# Altium footprint library 691 308 330 0xx.PcbLib: 9 footprints
Each footprint in its own frame and in the unit in brackets; x right, y up, seen from the top. Pads: shape width x height; smd on the part's side, far side on the other; paste and mask are expansions set on the pad; w line width, h text height; cw(c..) or ccw(c..) is an arc to the next point about the centre after c.
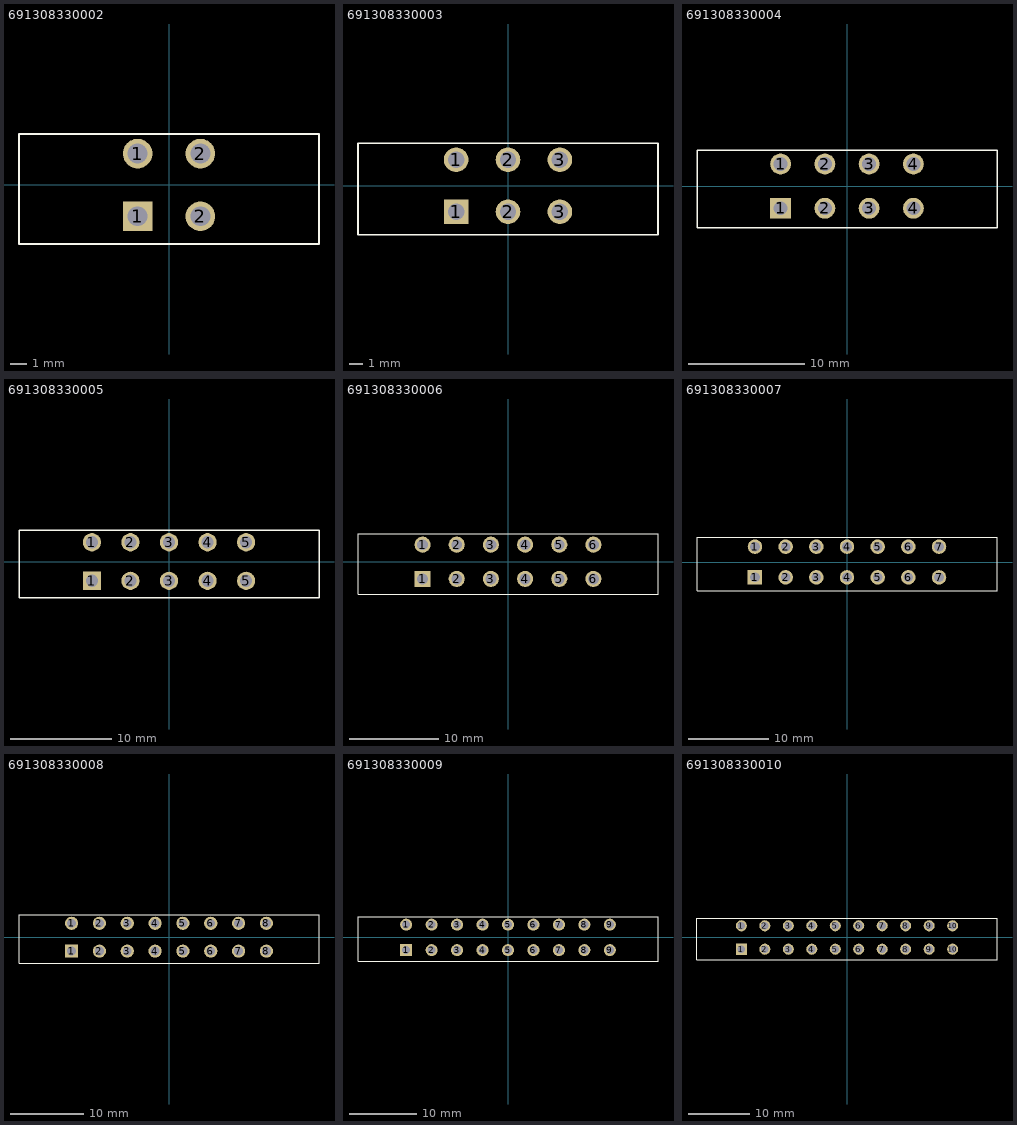
[diagram p0: the footprints below, top view; thin cyan lines are the x and y axes]

## 691308330002 [mm] "Serie 3083 - 3.81 mm _ 2 pins"
height 14.5
pads (4):
  rect 1.8x1.8 hole 1.2: 1(-1.905,-1.905)
  round 1.8 hole 1.2: 1(-1.905,1.905) 2(1.905,-1.905) 2(1.905,1.905)
Top Overlay:
  lines w0.127: -9.105,-3.595 9.105,-3.595 9.105,3.105 -9.105,3.105 -9.105,-3.595
3D body: height 14.6, standoff -3.3, extent -9.105,-3.65 9.105,3.15

## 691308330003 [mm] "Serie 3083 - 3.81 mm _ 3 pins"
height 14.5
pads (6):
  rect 1.8x1.8 hole 1.2: 1(-3.81,-1.905)
  round 1.8 hole 1.2: 1(-3.81,1.905) 2(0,-1.905) 2(0,1.905) 3(3.81,-1.905) 3(3.81,1.905)
Top Overlay:
  lines w0.127: -11.01,-3.595 -11.01,3.105 11.01,3.105 11.01,-3.595 -11.01,-3.595
3D body: height 14.6, standoff -3.3, extent -11.01,-3.65 11.01,3.15

## 691308330004 [mm] "Serie 3083 - 3.81 mm _ 4 pins"
height 14.5
pads (8):
  rect 1.8x1.8 hole 1.2: 1(-5.715,-1.905)
  round 1.8 hole 1.2: 1(-5.715,1.905) 2(-1.905,-1.905) 2(-1.905,1.905) 3(1.905,-1.905) 3(1.905,1.905) 4(5.715,-1.905) 4(5.715,1.905)
Top Overlay:
  lines w0.127: -12.915,-3.595 12.915,-3.595 12.915,3.105 -12.915,3.105 -12.915,-3.595
3D body: height 14.6, standoff -3.3, extent -12.95,-3.65 12.88,3.15

## 691308330005 [mm] "Serie 3083 - 3.81 mm _ 5 pins"
height 14.5
pads (10):
  rect 1.8x1.8 hole 1.2: 1(-7.62,-1.905)
  round 1.8 hole 1.2: 1(-7.62,1.905) 2(-3.81,-1.905) 2(-3.81,1.905) 3(0,-1.905) 3(0,1.905) 4(3.81,-1.905) 4(3.81,1.905) 5(7.62,-1.905) 5(7.62,1.905)
Top Overlay:
  lines w0.127: -14.82,-3.595 -14.82,3.105 14.82,3.105 14.82,-3.595 -14.82,-3.595
3D body: height 14.6, standoff -3.3, extent -14.85,-3.65 14.79,3.15

## 691308330006 [mm] "Serie 3083 - 3.81 mm _ 6 pins"
height 14.5
pads (12):
  rect 1.8x1.8 hole 1.2: 1(-9.525,-1.905)
  round 1.8 hole 1.2: 1(-9.525,1.905) 2(-5.715,-1.905) 2(-5.715,1.905) 3(-1.905,-1.905) 3(-1.905,1.905) 4(1.905,-1.905) 4(1.905,1.905) 5(5.715,-1.905) 5(5.715,1.905) 6(9.525,-1.905) 6(9.525,1.905)
Top Overlay:
  lines w0.127: -16.725,-3.595 -16.725,3.105 16.725,3.105 16.725,-3.595 -16.725,-3.595
3D body: height 14.6, standoff -3.3, extent -16.75,-3.65 16.7,3.15

## 691308330007 [mm] "Serie 3083 - 3.81 mm _ 7 pins"
height 14.5
pads (14):
  rect 1.8x1.8 hole 1.2: 1(-11.43,-1.905)
  round 1.8 hole 1.2: 1(-11.43,1.905) 2(-7.62,-1.905) 2(-7.62,1.905) 3(-3.81,-1.905) 3(-3.81,1.905) 4(0,-1.905) 4(0,1.905) 5(3.81,-1.905) 5(3.81,1.905) 6(7.62,-1.905) 6(7.62,1.905) 7(11.43,-1.905) 7(11.43,1.905)
Top Overlay:
  lines w0.127: -18.63,-3.595 18.63,-3.595 18.63,3.105 -18.63,3.105 -18.63,-3.595
3D body: height 14.6, standoff -3.3, extent -18.6,-3.65 18.66,3.15

## 691308330008 [mm] "Serie 3083 - 3.81 mm _ 8 pins"
height 14.5
pads (16):
  rect 1.8x1.8 hole 1.2: 1(-13.335,-1.905)
  round 1.8 hole 1.2: 1(-13.335,1.905) 2(-9.525,-1.905) 2(-9.525,1.905) 3(-5.715,-1.905) 3(-5.715,1.905) 4(-1.905,-1.905) 4(-1.905,1.905) 5(1.905,-1.905) 5(1.905,1.905) 6(5.715,-1.905) 6(5.715,1.905) 7(9.525,-1.905) 7(9.525,1.905) 8(13.335,-1.905) 8(13.335,1.905)
Top Overlay:
  lines w0.127: -20.535,-3.595 20.535,-3.595 20.535,3.105 -20.535,3.105 -20.535,-3.595
3D body: height 14.6, standoff -3.3, extent -20.52,-3.65 20.55,3.15

## 691308330009 [mm] "Serie 3083 - 3.81 mm _ 9 pins"
height 14.5
pads (18):
  rect 1.8x1.8 hole 1.2: 1(-15.24,-1.905)
  round 1.8 hole 1.2: 1(-15.24,1.905) 2(-11.43,-1.905) 2(-11.43,1.905) 3(-7.62,-1.905) 3(-7.62,1.905) 4(-3.81,-1.905) 4(-3.81,1.905) 5(0,-1.905) 5(0,1.905) 6(3.81,-1.905) 6(3.81,1.905) 7(7.62,-1.905) 7(7.62,1.905) 8(11.43,-1.905) 8(11.43,1.905) 9(15.24,-1.905) 9(15.24,1.905)
Top Overlay:
  lines w0.127: -22.44,-3.595 22.44,-3.595 22.44,3.105 -22.44,3.105 -22.44,-3.595
3D body: height 14.6, standoff -3.3, extent -22.43,-3.65 22.45,3.15

## 691308330010 [mm] "Serie 3083 - 3.81 mm _ 10 pins"
height 14.5
pads (20):
  rect 1.8x1.8 hole 1.2: 1(-17.145,-1.905)
  round 1.8 hole 1.2: 1(-17.145,1.905) 2(-13.335,-1.905) 2(-13.335,1.905) 3(-9.525,-1.905) 3(-9.525,1.905) 4(-5.715,-1.905) 4(-5.715,1.905) 5(-1.905,-1.905) 5(-1.905,1.905) 6(1.905,-1.905) 6(1.905,1.905) 7(5.715,-1.905) 7(5.715,1.905) 8(9.525,-1.905) 8(9.525,1.905) 9(13.335,-1.905) 9(13.335,1.905) 10(17.145,-1.905) 10(17.145,1.905)
Top Overlay:
  lines w0.127: -24.345,-3.595 -24.345,3.105 24.345,3.105 24.345,-3.595 -24.345,-3.595
3D body: height 14.6, standoff -3.3, extent -24.35,-3.65 24.34,3.15